# EAGLE library part MAX19706 (library MainBoard)
Maxim MAX19706 Low-Power Analog Front-End Low-power analog front-end featuring: Dual 10-bit 22 MSPS Rx ADC Dual 10-bit 22 MSPS Tx DAC Source: http://datasheets.maxim-ic.com/en/ds/MAX19706.pdf
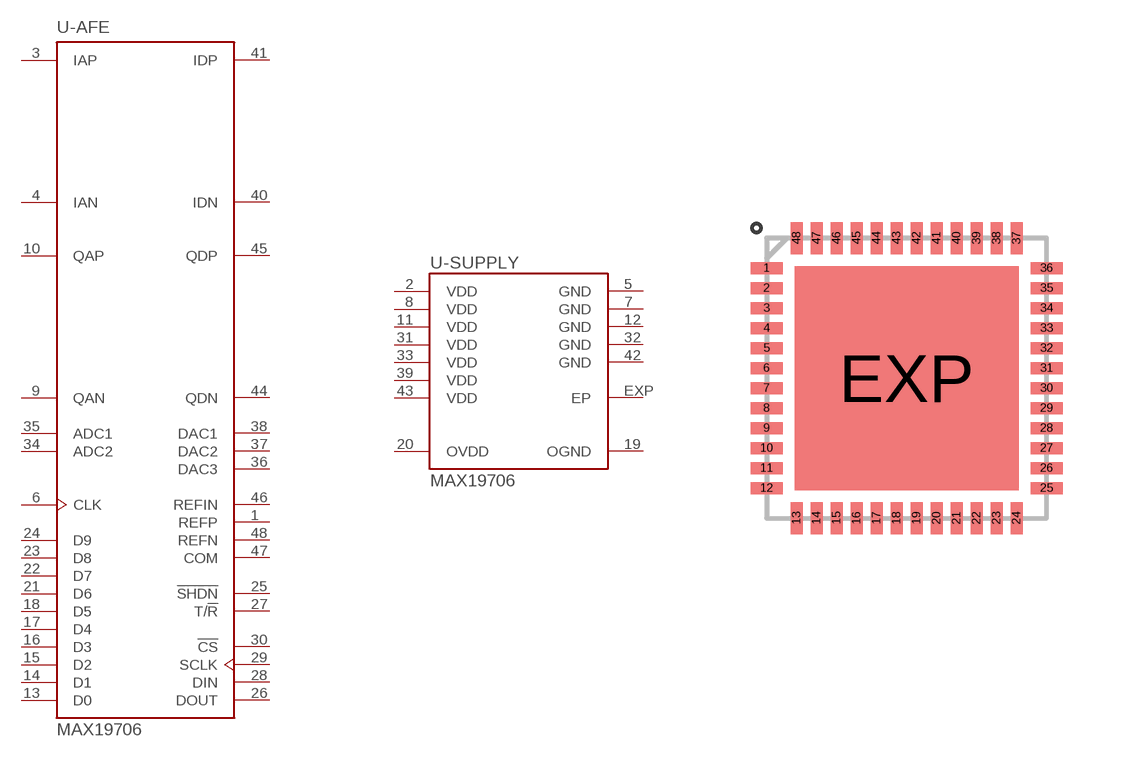
[diagram p8: symbol with the pads of TQFN-48; footprint TQFN-48]

Designator prefix U; gates -AFE=MAX19706-ADC-DAC -SUPPLY=MAX19706-SUPPLY

## MAX19706-T4877-4 (DIGI-KEY#: MAX19706ETM+-ND; MF: Maxim; MPN: MAX19706ETM+)  [TQFN-48]
1  -AFE:REFP  pas
2  -SUPPLY:VDD  pwr
3  -AFE:IAP  pas
4  -AFE:IAN  pas
5  -SUPPLY:GND  pwr
6  -AFE:CLK  in
7  -SUPPLY:GND  pwr
8  -SUPPLY:VDD  pwr
9  -AFE:QAN  pas
10  -AFE:QAP  pas
11  -SUPPLY:VDD  pwr
12  -SUPPLY:GND  pwr
13  -AFE:D0
14  -AFE:D1
15  -AFE:D2
16  -AFE:D3
17  -AFE:D4
18  -AFE:D5
19  -SUPPLY:OGND  pwr
20  -SUPPLY:OVDD  pwr
21  -AFE:D6
22  -AFE:D7
23  -AFE:D8
24  -AFE:D9
25  -AFE:!SHDN  in
26  -AFE:DOUT  out
27  -AFE:T/!R  in
28  -AFE:DIN  in
29  -AFE:SCLK  in
30  -AFE:!CS  in
31  -SUPPLY:VDD  pwr
32  -SUPPLY:GND  pwr
33  -SUPPLY:VDD  pwr
34  -AFE:ADC2  pas
35  -AFE:ADC1  pas
36  -AFE:DAC3  pas
37  -AFE:DAC2  pas
38  -AFE:DAC1  pas
39  -SUPPLY:VDD  pwr
40  -AFE:IDN  pas
41  -AFE:IDP  pas
42  -SUPPLY:GND  pwr
43  -SUPPLY:VDD  pwr
44  -AFE:QDN  pas
45  -AFE:QDP  pas
46  -AFE:REFIN  pas
47  -AFE:COM  pas
48  -AFE:REFN  pas
EXP  -SUPPLY:EP  pwr

## Footprint TQFN-48 (pad centres in mm)
TQFN-48 48-pin TQFN package with exposed pad. Note: This land pattern is IPC-7351 compilant. Sources: http://datasheets.maxim-ic.com/en/ds/MAX19706.pdf
smd 0.8 x 0.3: 1 -3.5,2.75; 2 -3.5,2.25; 3 -3.5,1.75; 4 -3.5,1.25; 5 -3.5,0.75; 6 -3.5,0.25; 7 -3.5,-0.25; 8 -3.5,-0.75; 9 -3.5,-1.25; 10 -3.5,-1.75; 11 -3.5,-2.25; 12 -3.5,-2.75; 25 3.5,-2.75; 26 3.5,-2.25; 27 3.5,-1.75; 28 3.5,-1.25; 29 3.5,-0.75; 30 3.5,-0.25; 31 3.5,0.25; 32 3.5,0.75; 33 3.5,1.25; 34 3.5,1.75; 35 3.5,2.25; 36 3.5,2.75
smd 0.3 x 0.8: 13 -2.75,-3.5; 14 -2.25,-3.5; 15 -1.75,-3.5; 16 -1.25,-3.5; 17 -0.75,-3.5; 18 -0.25,-3.5; 19 0.25,-3.5; 20 0.75,-3.5; 21 1.25,-3.5; 22 1.75,-3.5; 23 2.25,-3.5; 24 2.75,-3.5; 37 2.75,3.5; 38 2.25,3.5; 39 1.75,3.5; 40 1.25,3.5; 41 0.75,3.5; 42 0.25,3.5; 43 -0.25,3.5; 44 -0.75,3.5; 45 -1.25,3.5; 46 -1.75,3.5; 47 -2.25,3.5; 48 -2.75,3.5
smd 5.6 x 5.6: EXP 0,0